# EAGLE library part PULSE-TRAFO (library balto)
Pulse Transformer
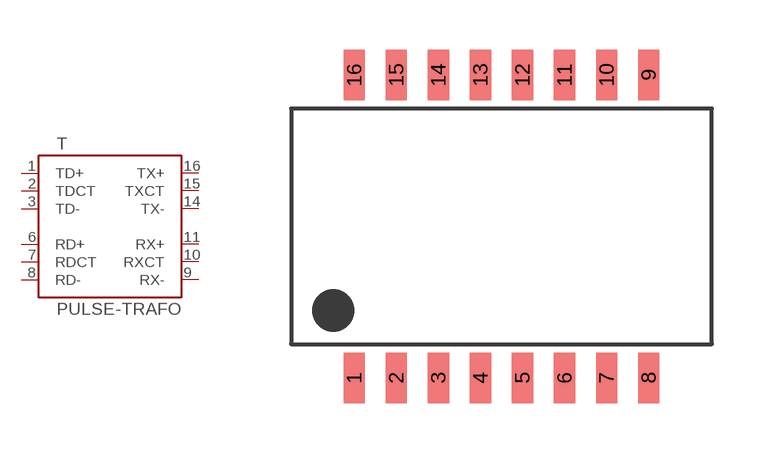
[diagram p52: symbol with the pads of PULSE-TRAFO; footprint PULSE-TRAFO]

Designator prefix T

## PULSE-TRAFO  [PULSE-TRAFO]
1  TD+
2  TDCT
3  TD-
6  RD+
7  RDCT
8  RD-
9  RX-
10  RXCT
11  RX+
14  TX-
15  TXCT
16  TX+

## Footprint PULSE-TRAFO (pad centres in mm)
smd 0.64 x 1.525: 1 -4.445,-4.572; 2 -3.175,-4.572; 3 -1.905,-4.572; 4 -0.635,-4.572; 5 0.635,-4.572; 6 1.905,-4.572; 7 3.175,-4.572; 8 4.445,-4.572; 9 4.445,4.572; 10 3.175,4.572; 11 1.905,4.572; 12 0.635,4.572; 13 -0.635,4.572; 14 -1.905,4.572; 15 -3.175,4.572; 16 -4.445,4.572